# EAGLE library part 1.54_WVSHR_E_PAPER (library Eric Navarrete Custom Parts Feb 2019)
Waveshare 1.54 inch black and white E-Paper display Package is setup to use the Omron XF2M-2415-1A fpc connector
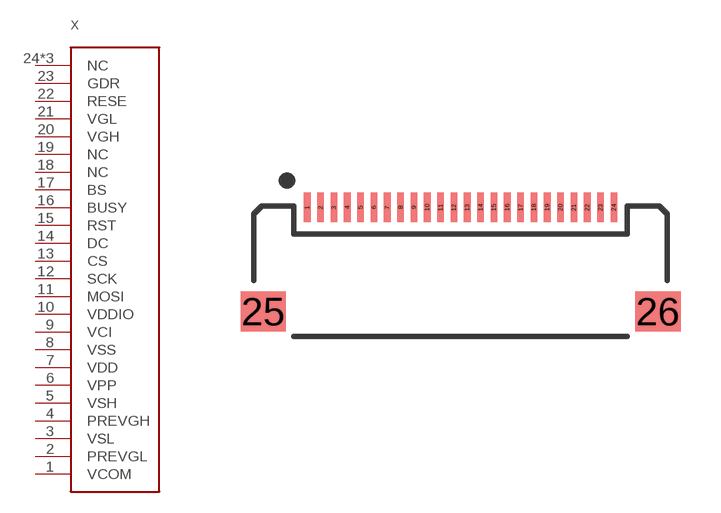
[diagram p0: symbol with the pads of XF2M-2415-1A; footprint XF2M-2415-1A]

Designator prefix X

## 1.54_WVSHR_E_PAPER  [XF2M-2415-1A]
1  VCOM
2  PREVGL
3  VSL
4  PREVGH
5  VSH
6  VPP
7  VDD
8  VSS
9  VCI
10  VDDIO
11  MOSI
12  SCK
13  CS
14  DC
15  RST
16  BUSY
17  BS
18  NC
19  NC
20  VGH
21  VGL
22  RESE
23  GDR
24  NC
25  NC
26  NC

## Footprint XF2M-2415-1A (pad centres in mm)
XF2M-2415-1A
smd 0.25 x 1.1: 1 -5.75,0; 2 -5.25,0; 3 -4.75,0; 4 -4.25,0; 5 -3.75,0; 6 -3.25,0; 7 -2.75,0; 8 -2.25,0; 9 -1.75,0; 10 -1.25,0; 11 -0.75,0; 12 -0.25,0; 13 0.25,0; 14 0.75,0; 15 1.25,0; 16 1.75,0; 17 2.25,0; 18 2.75,0; 19 3.25,0; 20 3.75,0; 21 4.25,0; 22 4.75,0; 23 5.25,0; 24 5.75,0
smd 1.7 x 1.5: 25 -7.4,-3.9; 26 7.4,-3.9